# Altium schematic symbol library Artem_Library.SchLib: 157 symbols
Pins are listed as number, name and electrical type; pins without a type are passive.

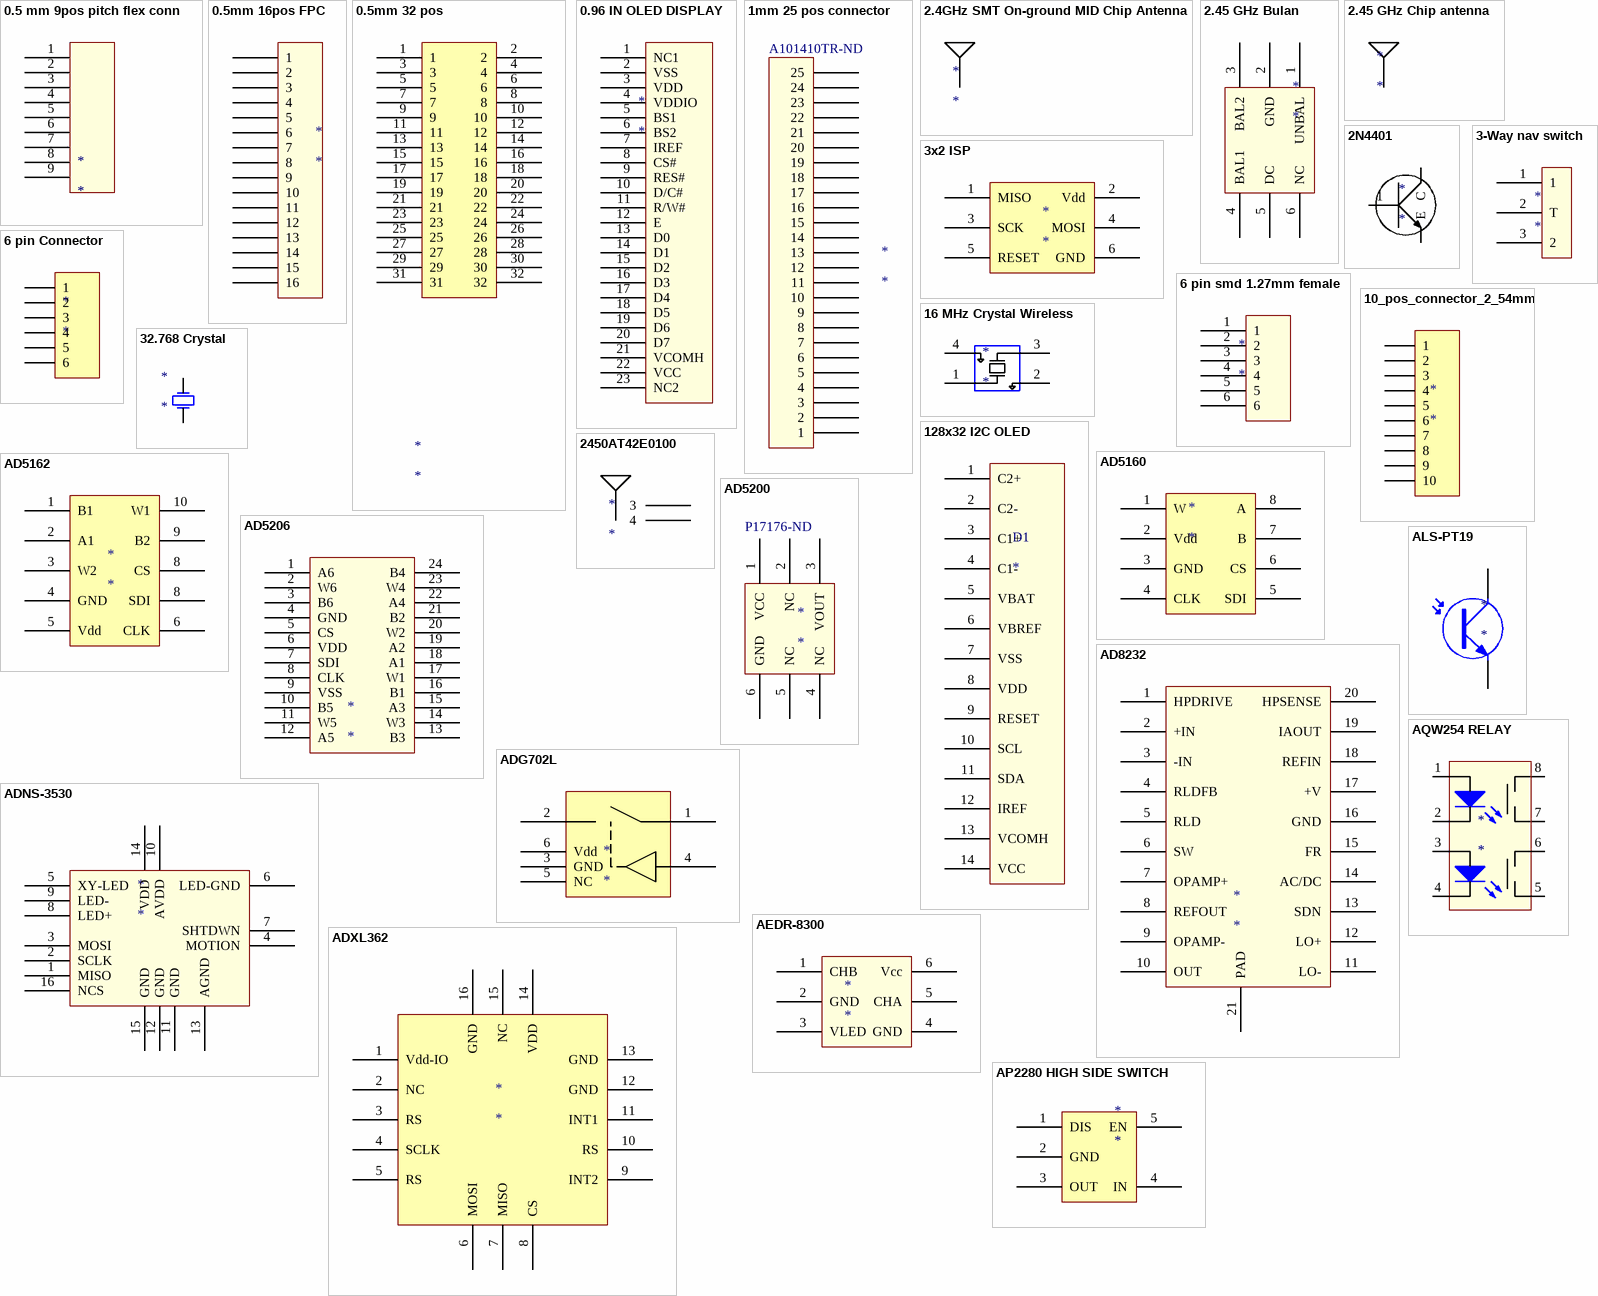
[diagram p0: symbols 0.5 mm 9pos pitch flex conn to AQW254 RELAY]

## 0.5 mm 9pos pitch flex conn
designator *
digikey number: HFN409CT-ND
footprint FH19C 9Pos (9 pos flex cable connector)
pins: 1, 2, 3, 4, 5, 6, 7, 8, 9

## 0.5mm 16pos FPC
designator *
Supplier 1: Digikey; Supplier Part Number 1: 732-2023-1-ND
footprint FPC 16 PIN 0.5mm
pins: 1, 2, 3, 4, 5, 6, 7, 8, 9, 10, 11, 12, 13, 14, 15, 16

## 0.5mm 32 pos
designator *
manufacturer part number: DF12(3.0)-32DP-0.5V(86); manufacturer: Hirose; digikey part number: H5222CT-ND
footprint 0.5mm 32 pos
footprint DF12 32 Pos
pins: 1, 2, 3, 4, 5, 6, 7, 8, 9, 10, 11, 12, 13, 14, 15, 16, 17, 18, 19, 20, 21, 22, 23, 24, 25, 26, 27, 28, 29, 30, 31, 32

## 0.96 IN OLED DISPLAY
designator *
manufacturer part number: UG-9664HDDAG01; manufacturer: Univision Technology Inc
footprint 0.96in OLED
pins: 1 NC1, 2 VSS, 3 VDD, 4 VDDIO, 5 BS1, 6 BS2, 7 IREF, 8 CS#, 9 RES#, 10 D/C#, 11 R/W#, 12 E, 13 D0, 14 D1, 15 D2, 16 D3, 17 D4, 18 D5, 19 D6, 20 D7, 21 VCOMH, 22 VCC, 23 NC2

## 1mm 25 pos connector
designator *  Supplier Part Number 1: A101410TR-ND
Supplier 1: Digikey
footprint 2-84953-5
pins: 1, 2, 3, 4, 5, 6, 7, 8, 9, 10, 11, 12, 13, 14, 15, 16, 17, 18, 19, 20, 21, 22, 23, 24, 25

## 2.4GHz SMT On-ground MID Chip Antenna
designator *
Bluetooth antenna; manufacturer: Molex; manufacturer part number: 47948-0001; digikey part number: WM4893CT-ND
footprint 47948-0001 (2.4GHz SMT On-ground MID Chip Antenna)
pins: 1

## 2.45 GHz Bulan
designator *
for nRF8001 chip; digikey number: 712-1574-1-ND
footprint 2450BM14A0002 (Balun for nRF8001)
pins: 1 UNBAL, 2 GND, 3 BAL2, 4 BAL1, 5 DC , 6 NC

## 2.45 GHz Chip antenna
designator *
for Bluetooth; digikey part number: 712-1005-1-ND
footprint 2450AT18A100E (Chip antenna 2.45 GHz)
pins: 1

## 2N4401
designator *
NPN General Purpose amplifier; digikey part number: MMBT4401FSCT-ND
footprint SOT23
pins: 1 B, 2 E, 3 C

## 3-Way nav switch
designator *
Sparkfun: COM-08236
footprint 3-Way Nav Switch
pins: 1, 2 T, 3 2

## 3x2 ISP
designator *
footprint 3x2 ISP (ISP programmer atmel)
pins: 1 MISO, 2 Vdd, 3 SCK, 4 MOSI, 5 RESET, 6 GND

## 6 pin Connector
designator *
holes for dust sensor
footprint 6 Pos ER series JST conenctor 1.5 pitch
pins: 1, 2, 3, 4, 5, 6

## 6 pin smd 1.27mm female
designator *
digikey: S9005E-06-ND
footprint 1.27mm smd female (female connector smd for 1,27mm)
footprint 6pos 1.27mm
pins: 1, 2, 3, 4, 5, 6

## 10_pos_connector_2_54mm
designator *
footprint 2_54mm_10_pos_connector
pins: 1, 2, 3, 4, 5, 6, 7, 8, 9, 10

## 16 MHz Crystal Wireless
designator *
For BLE use; digikey part number: 644-1169-1-ND
footprint 2.5 x 2.0 crystal
pins: 1 XIN, 2 Gnd, 3 XOUT, 4 Gnd

## 32.768 Crystal
designator *
digikey number: XC1617CT-ND
footprint 32.768 Crystal (for BLE radio)
pins: 1, 2

## 128x32 I2C OLED
designator D1
Adafruit product ID: 931
footprint 128x32 OLED
pins: 1 C2+, 2 C2-, 3 C1+, 4 C1-, 5 VBAT, 6 VBREF, 7 VSS, 8 VDD, 9 RESET, 10 SCL, 11 SDA, 12 IREF, 13 VCOMH, 14 VCC

## 2450AT42E0100
designator *
Supplier 1: Digikey; Supplier Part Number 1: 712-1589-1-ND
footprint 2450AT42E0100 (2.4 GHz antenna no clearance)
pins: 1, 3, 4

## AD5160
designator *
Digikey part number: AD5160BRJZ10-RL7CT-ND
footprint SOT-23-8
pins: 1 W, 2 Vdd, 3 GND, 4 CLK, 5 SDI, 6 CS, 7 B, 8 A

## AD5162
designator *
Digikey part number: AD5162BRMZ100-RL7CT-ND
pins: 1 B1, 2 A1, 3 W2, 4 GND, 5 Vdd, 6 CLK, 8 CS, 8 SDI, 9 B2, 10 W1

## AD5200
designator *  Supplier Part Number 1: P17176-ND
Supplier 1: Digi-Key
footprint ADP5200 (Pressure sensor SMD)
pins: 1 VCC, 2 NC, 3 VOUT, 4 NC, 5 NC, 6 GND

## AD5206
designator *
Digikey part number: AD5206BRUZ10-RL7CT-ND
footprint TSSOP 24
pins: 1 A6, 2 W6, 3 B6, 4 GND, 5 CS, 6 VDD, 7 SDI, 8 CLK, 9 VSS, 10 B5, 11 W5, 12 A5, 13 B3, 14 W3, 15 A3, 16 B1, 17 W1, 18 A1, 19 A2, 20 W2, 21 B2, 22 A4, 23 W4, 24 B4

## AD8232
designator *
Heart rate circuit; Supplier 1: Digikey; Supplier Part Number 1: AD8232ACPZ-R7CT-ND
footprint LFCSP_WQ-20
pins: 1 HPDRIVE, 2 +IN, 3 -IN, 4 RLDFB, 5 RLD, 6 SW, 7 OPAMP+, 8 REFOUT, 9 OPAMP-, 10 OUT, 11 LO-, 12 LO+, 13 SDN, 14 AC/DC, 15 FR, 16 GND, 17 +V, 18 REFIN, 19 IAOUT, 20 HPSENSE, 21 PAD

## ADG702L
designator *
Digikey part number: ADG702LBRTZ-REEL7CT-ND
footprint RT-6 (Same as SOT-23 but with  6 pins)
pins: 1 D, 2 S, 3 GND, 4 IN, 5 NC, 6 Vdd

## ADNS-3530
designator *
footprint ADNS_3530 (Mouse Sensor)
pins: 1 MISO, 2 SCLK, 3 MOSI, 4 MOTION, 5 XY-LED, 6 LED-GND, 7 SHTDWN, 8 LED+, 9 LED-, 10 AVDD, 11 GND, 12 GND, 13 AGND, 14 VDD, 15 GND, 16 NCS

## ADXL362
designator *
Digikey #: ADXL362BCCZ-RL7CT-ND
footprint ADXL362
pins: 1 Vdd-IO, 2 NC, 3 RS, 4 SCLK, 5 RS, 6 MOSI, 7 MISO, 8 CS, 9 INT2, 10 RS, 11 INT1, 12 GND, 13 GND, 14 VDD, 15 NC, 16 GND

## AEDR-8300
designator *
Reflective encoder digital; digikey part number: 516-2262-1-ND
footprint AEDR-8300
pins: 1 CHB, 2 GND, 3 VLED, 4 GND, 5 CHA, 6 Vcc

## ALS-PT19
designator *
Ambient Light Sensor; digikey part number: 1080-1244-1-ND
footprint ALS-PT19 (Ambient Light Sensor SMD)
pins: 1 C, 2 E

## AP2280 HIGH SIDE SWITCH
designator *
2A High side switch; digikey number: AP2280-1WGDICT-ND
footprint SOT25
pins: 1 DIS, 2 GND, 3 OUT, 4 IN, 5 EN

## AQW254 RELAY
designator *
400V 160mA Relay
footprint AQW254A (Relay 400V 0.120mA)
pins: 1, 2, 3, 4, 5, 6, 7, 8

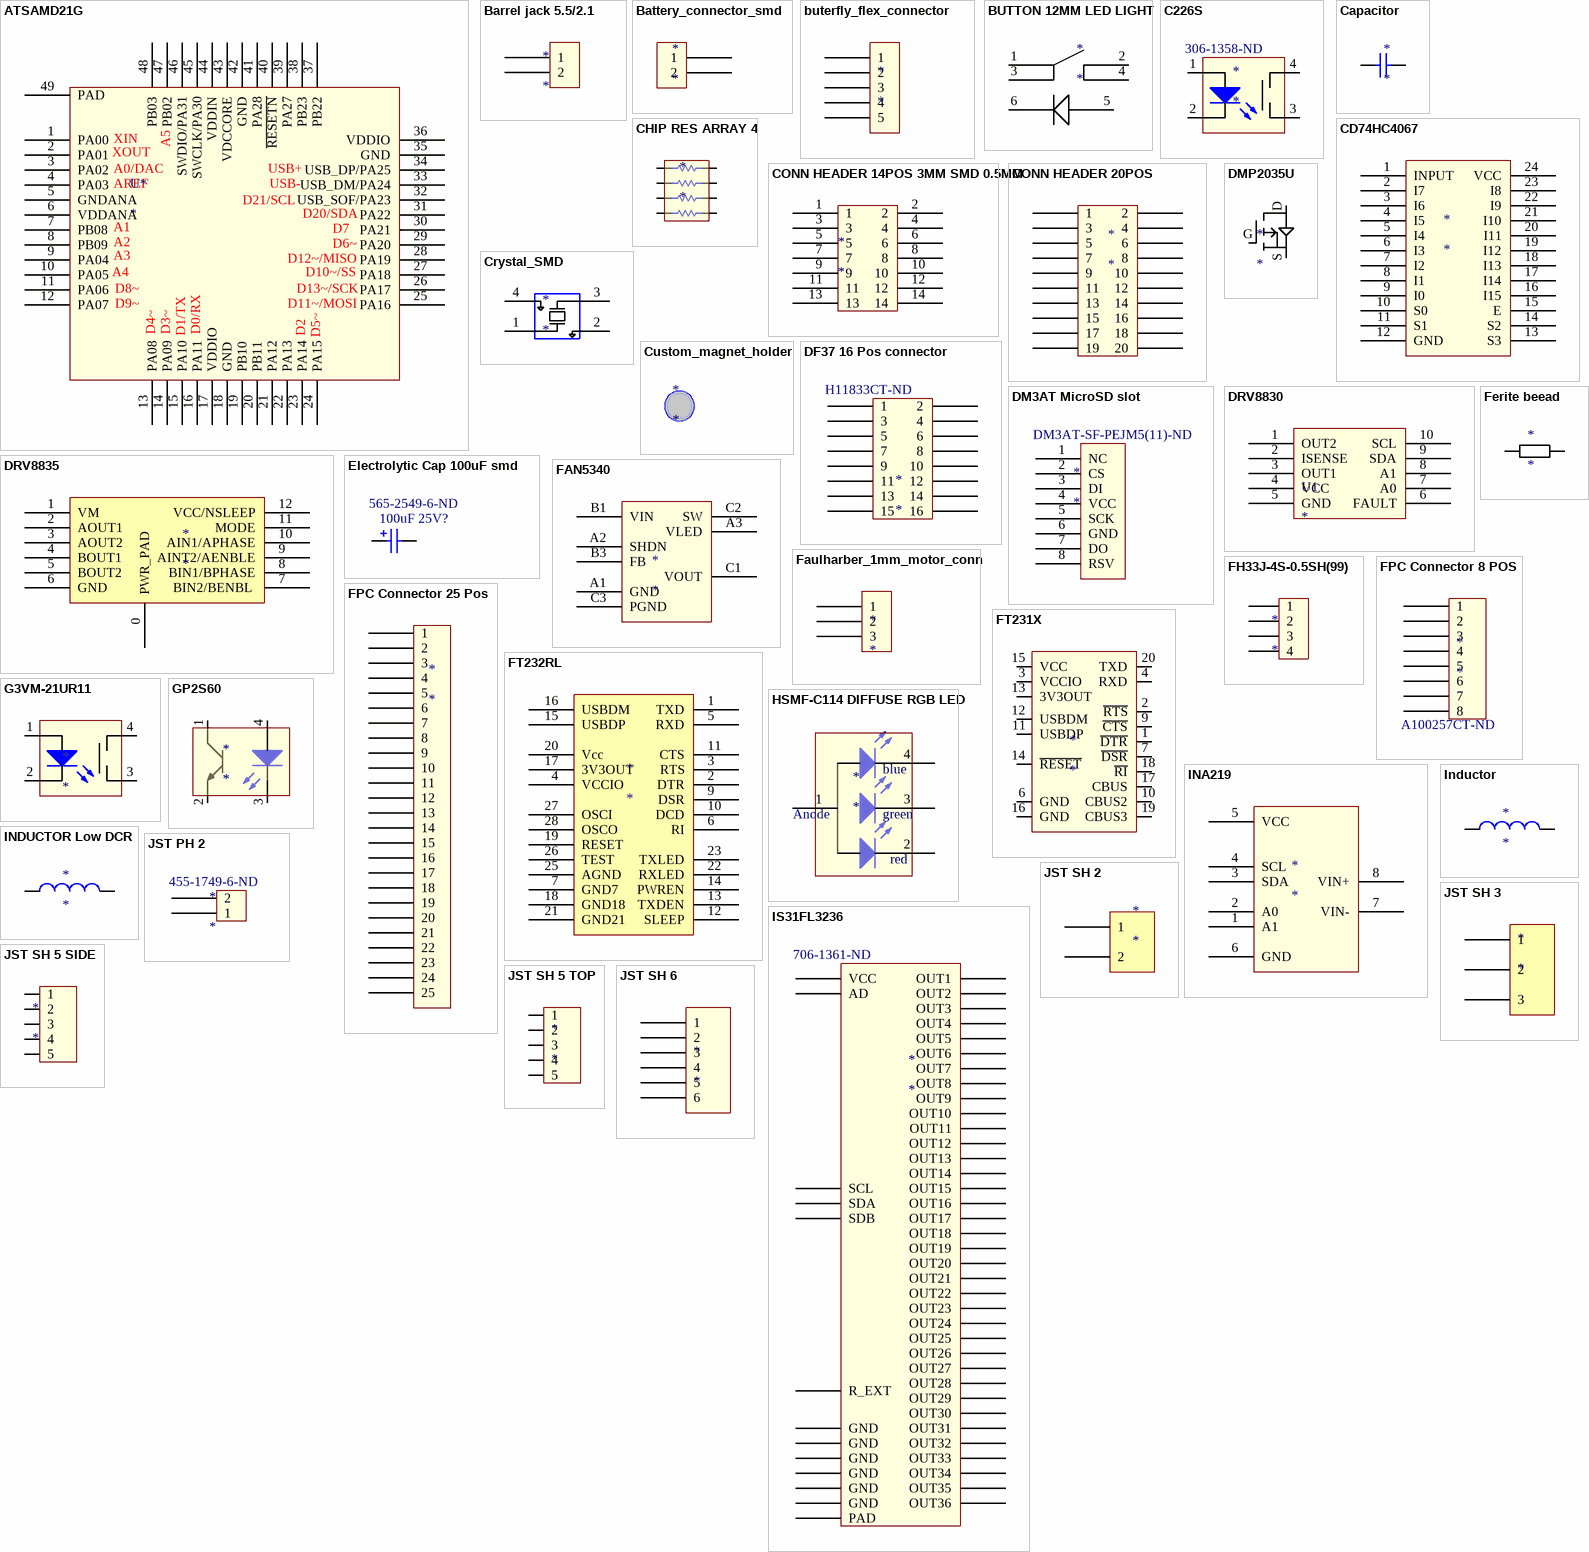
[diagram p1: symbols ATSAMD21G to JST SH 6]

## ATSAMD21G
designator U*
IC MCU 32BIT 256KB FLASH 48TQFP; digikey part number: ATSAMD21G18A-AUTCT-ND
footprint TQFN48 (TSQFP, 48-Leads, Body 7.00x7.00mm, Pitch 0.50mm, IPC High Density)
footprint QFN48
pins: 1 PA00, 2 PA01, 3 PA02, 4 PA03, 5 GNDANA, 6 VDDANA, 7 PB08, 8 PB09, 9 PA04, 10 PA05, 11 PA06, 12 PA07, 13 PA08, 14 PA09, 15 PA10, 16 PA11, 17 VDDIO, 18 GND, 19 PB10, 20 PB11, 21 PA12, 22 PA13, 23 PA14, 24 PA15, 25 PA16, 26 PA17, 27 PA18, 28 PA19, 29 PA20, 30 PA21, 31 PA22, 32 USB_SOF/PA23, 33 USB_DM/PA24, 34 USB_DP/PA25, 35 GND, 36 VDDIO, 37 PB22, 38 PB23, 39 PA27, 40 ~{RESETN}, 41 PA28, 42 GND, 43 VDCCORE, 44 VDDIN, 45 SWCLK/PA30, 46 SWDIO/PA31, 47 PB02, 48 PB03, 49 PAD
text: XIN; A5; XOUT; A0/DAC; USB+; AREF; USB-; D21/SCL; D20/SDA; A1; D7; A2; D6~; A3; D12~/MISO; A4; D10~/SS; D8~; D13~/SCK; D9~; D11~/MOSI; D4~; D3~; D1/TX; D0/RX; D2; D5~

## Barrel jack 5.5/2.1
designator *
sparkfun part number: 12748
footprint ADC-028-2 (2.1/5.5mm barrel jack)
footprint Model Name (Footprint not found)
pins: 1, 2

## Battery_connector_smd
designator *
footprint BATT CONNECTOR SMD SMALL
pins: 1, 2

## buterfly_flex_connector
designator *
footprint BUTERFLY_CONNECTOR_5
pins: 1, 2, 3, 4, 5

## BUTTON 12MM LED LIGHT
designator *
footprint 12MM BUTTON LED LIGHT
pins: 1, 2, 3, 4, 5, 6

## C226S
designator *  Supplier Part Number 1: 306-1358-ND
Relay 1A 40V DC; Supplier 1: Digikey
footprint SOP4
pins: 1, 2, 3, 4

## Capacitor
designator *
SMD Cap 1206; digikey part number: *; manufacturer: *; manufacturer part number: *
footprint RES_1206_SMD
footprint CAP_1210
footprint 0603W
footprint 0402W
footprint 0402_CAP (Chip Capacitor, 2-Leads, Body 1.00x0.50mm, IPC Medium Density)
footprint 0402 CAPACITOR
pins: 1, 2

## CD74HC4067
designator *
1:16 multiplexer; Manufacturer part number: CD74HC4067SM96; Digikey part number: 296-9226-1-ND
footprint SSOP24
pins: 1 INPUT, 2 I7, 3 I6, 4 I5, 5 I4, 6 I3, 7 I2, 8 I1, 9 I0, 10 S0, 11 S1, 12 GND, 13 S3, 14 S2, 15 E, 16 I15, 17 I14, 18 I13, 19 I12, 20 I11, 21 I10, 22 I9, 23 I8, 24 VCC

## CHIP RES ARRAY 4
designator *
digikey number: Y7331CT-ND; digikey number 1206: Y9331CT-ND
footprint RES ARRAY 0402 4RES
footprint RES ARRAY 4 1206
pins: 1, 2, 3, 4, 5, 6, 7, 8

## CONN HEADER 14POS 3MM SMD 0.5MM
designator *
digikey part number: H11701TR-ND; digikey part number female: H11701TR-ND
footprint DF12 14Pos (0.5 mm header)
footprint DF12 14Pos Female (0.5 mm header)
pins: 1, 2, 3, 4, 5, 6, 7, 8, 9, 10, 11, 12, 13, 14

## CONN HEADER 20POS
designator *
manufacturer part number: DF12D(4.0)-20DP-0.5V(81); manufacturer: Hirose Electric Co Ltd; digikey part number: H11743CT-ND
footprint DF12 20 POS
pins: 1, 2, 3, 4, 5, 6, 7, 8, 9, 10, 11, 12, 13, 14, 15, 16, 17, 18, 19, 20

## Crystal_SMD
designator *
Surface mount crystal; Sparkfun # for 16 MHz: COM-00094
footprint CRYSTAL_SMD
pins: 1 XIN, 2 Gnd, 3 XOUT, 4 Gnd

## Custom_magnet_holder
designator *
footprint 3mm_magnet_holder (custom magnet holder)

## DF37 16 Pos connector
designator *  Supplier Part Number 1: H11833CT-ND
Supplier 1: Digikey
footprint DF37 16 pos (small board to board connector)
pins: 1, 2, 3, 4, 5, 6, 7, 8, 9, 10, 11, 12, 13, 14, 15, 16

## DM3AT MicroSD slot
designator *  Supplier Part Number 1: DM3AT-SF-PEJM5(11)-ND
Supplier 1: Digikey
footprint DM3AT (MicroSD slot)
pins: 1 NC, 2 CS, 3 DI, 4 VCC, 5 SCK, 6 GND, 7 DO, 8 RSV

## DMP2035U
designator *
P-channel mosfet; manufacturer part number: DMP2035U-7; manufacturer: Diodes incorporated; digikey part number: DMP2035U-7DICT-ND
footprint SOT23_3D
pins: D, G, S

## DRV8830
designator U1
Low-Voltage Motor Driver With Serial Interface; digikey part number: 296-28165-1-ND
footprint MSOP10_TI_POWERPAD (TSSOP, 10-Leads, Body 3.00x3.00mm, Pitch 0.50mm, Thermal Pad 3.00x2.50mm, IPC Medium Density)
pins: 1 OUT2, 2 ISENSE, 3 OUT1, 4 VCC, 5 GND, 6 FAULT, 7 A0, 8 A1, 9 SDA, 10 SCL

## DRV8835
designator *
manufacturer: Texas Instruments; manufacturer part number: DRV8835DSSR; digikey part number: 296-30391-1-ND
footprint WSON-16
pins: 0 PWR_PAD, 1 VM, 2 AOUT1, 3 AOUT2, 4 BOUT1, 5 BOUT2, 6 GND, 7 BIN2/BENBL , 8 BIN1/BPHASE, 9 AINT2/AENBLE, 10 AIN1/APHASE, 11 MODE, 12 VCC/NSLEEP

## Electrolytic Cap 100uF smd
designator 100uF 25V?  Supplier Part Number 1: 565-2549-6-ND  (hidden comment: Electrolytic Cap 100uF smd)
100uF 25 VSMD; manufacturer: United Chemi-Con; manufacturer part number: EMZA250ADA101MF80G; digikey part number: 565-2549-1-ND; Supplier 1: Digikey
footprint F80 Electrolytic cap
pins: 1, 2

## FAN5340
designator *
LED Driver IC 1 Output DC DC Regulator Step-Up (Boost); manufacturer part number: FAN5340UCX; manufacturer: Fairchild; digikey part number: FAN5340UCXCT-ND
footprint BGA, 8-Leads, Body (BGA, 8-Leads, Body 1.57x1.57mmx0.54mm, Pitch 0.50mm)
pins: A1 GND, A2 SHDN, A3 VLED, B1 VIN, B3 FB, C1 VOUT, C2 SW, C3 PGND

## Faulharber_1mm_motor_conn
designator *
footprint FAULHARBER_MOTOR_CON (1MM pitch)
pins: 1, 2, 3

## Ferite beead
designator *
digikey number: MH2029-300Y
footprint 0805
pins: 1, 2

## FH33J-4S-0.5SH(99)
designator *
0.5mm FPC connector; digikey part number: H124646CT-ND
footprint FH33J-4S-0.5SH(99)
pins: 1, 2, 3, 4

## FPC Connector 8 POS
designator *  digikey part number: A100257CT-ND
footprint FPC 8POS 1MM (flex connector 8POS 1MM)
pins: 1, 2, 3, 4, 5, 6, 7, 8

## FPC Connector 25 Pos
designator *
digikey part number: A101410CT-ND
footprint FPC 25 POS (1mm pitch)
pins: 1, 2, 3, 4, 5, 6, 7, 8, 9, 10, 11, 12, 13, 14, 15, 16, 17, 18, 19, 20, 21, 22, 23, 24, 25

## FT231X
designator *
USB to SERIAL FULL UART; digikey part number: 768-1156-5-ND
footprint SSOP20 (SOP, 20-Leads, Body 8.17x5.99mm, Pitch 0.64mm, IPC Medium Density)
footprint 20-SSOP Narrow Body (TSOP, 20-Leads, Body 8.65x3.90mm, Pitch 0.64mm, IPC Medium Density)
pins: 1 ~{DTR}, 2 ~{RTS}, 3 VCCIO, 4 RXD, 6 GND, 7 ~{DSR}, 9 ~{CTS}, 10 CBUS2, 11 USBDP, 12 USBDM, 13 3V3OUT, 14 ~{RESET}, 15 VCC, 16 GND, 17 CBUS, 18 ~{RI}, 19 CBUS3, 20 TXD

## FT232RL
designator *
digikey number: 768-1007-1-ND
footprint 28-SSOP
pins: 1 TXD, 2 DTR, 3 RTS, 4 VCCIO, 5 RXD, 6 RI, 7 GND7, 9 DSR, 10 DCD, 11 CTS, 12 SLEEP, 13 TXDEN, 14 PWREN, 15 USBDP, 16 USBDM, 17 3V3OUT, 18 GND18, 19 RESET, 20 Vcc, 21 GND21, 22 RXLED, 23 TXLED, 25 AGND, 26 TEST, 27 OSCI, 28 OSCO

## G3VM-21UR11
designator *
manufacturer part number: G3VM-21UR11(TR05); digikey part number: Z4383CT-ND
footprint VSON4 (MOSFET RELAY)
pins: 1, 2, 3, 4

## GP2S60
designator *
digikey part number: 425-2885-1-ND
footprint GP2S60
pins: 1, 2, 3, 4

## HSMF-C114 DIFFUSE RGB LED
designator *
digikey number: 516-1795-1-ND
footprint HSMF-C114 LED (RGB LED)
pins: 1, 2, 3 G, 4 B
text: blue; Anode; green; red

## INA219
designator *
High side current monitor; Supplier 1: Digikey; Supplier Part Number 1: 296-23770-1-ND
footprint SOIC8 0.54 PITCH (FOR INA219)
pins: 1 A1, 2 A0, 3 SDA, 4 SCL, 5 VCC, 6 GND, 7 VIN-, 8 VIN+

## Inductor
designator *
footprint 0402 CAPACITOR
pins: 1, 2

## INDUCTOR Low DCR
designator *
Manufacturer: NR6028T470M; Digikey: 587-2104-1-ND
footprint NR6028 Inductor
footprint 0402_INDUCTOR (Chip Inductor, 2-Leads, Body 1.00x0.50mm, IPC Medium Density)
pins: 1, 2

## IS31FL3236
designator *  Supplier Part Number 1: 706-1361-ND
Supplier 1: Digikey
footprint eTQFP-48 (TSQFP, 48-Leads, Body 7.00x7.00mm, Pitch 0.50mm, Thermal Pad 4.21x4.21mm, IPC Medium Density)
pins: 1 OUT3, 2 OUT4, 3 OUT5, 4 GND, 5 OUT6, 6 OUT7, 7 OUT8, 8 OUT9, 9 OUT10, 10 OUT11, 11 OUT12, 12 OUT13, 13 OUT14, 14 OUT15, 15 OUT16, 16 OUT17, 17 OUT18, 18 GND, 19 GND, 20 OUT19, 21 OUT20, 22 OUT21, 23 OUT22, 24 OUT23, 25 OUT24, 26 OUT25, 27 OUT26, 28 OUT27, 29 OUT28, 30 OUT29, 31 OUT30, 32 OUT31, 33 GND, 34 OUT32, 35 OUT33, 36 OUT34, 37 OUT35, 38 OUT36, 39 SDB, 40 AD, 41 VCC, 42 GND, 43 GND, 44 R_EXT, 45 SDA, 46 SCL, 47 OUT1, 48 OUT2, 49 PAD

## JST PH 2
designator *  Supplier Part Number 1: 455-1749-6-ND
Supplier 1: Digikey
footprint JST PH 2 (2mm pitch)
pins: 1, 2

## JST SH 2
designator *
manufacturer part number: SM02B-SRSS-TB(LF)(SN); manufacturer: JST; digikey part number: 455-1802-2-ND
footprint JST SH 2 (1mm pitch)
pins: 1, 2

## JST SH 3
designator *
Supplier 1: Digikey; Supplier Part Number 1: 455-1803-1-ND
footprint JST SH 3 SIDE ENTRY
pins: 1, 2, 3

## JST SH 5 SIDE
designator *
1mm pitch; manufacturer part number: SM05B-SRSS-TB(LF)(SN); digikey park number: 455-1805-1-ND
footprint JST SH 5 SIDE ENTRY (1mm pitch)
pins: 1, 2, 3, 4, 5

## JST SH 5 TOP
designator *
manufacturer part number: BM05B-SRSS-TB; manufacturer: Molex; digikey part number: 455-1791-1-ND
footprint JST SH 5 TOP ENTRY (Horizontal 1mm)
pins: 1, 2, 3, 4, 5

## JST SH 6
designator *
Sparkfun part number: PRT-10210
footprint JST SH 6
footprint JST SH 6 TOP ENTRY 1MM (1 mm pitch)
pins: 1, 2, 3, 4, 5, 6

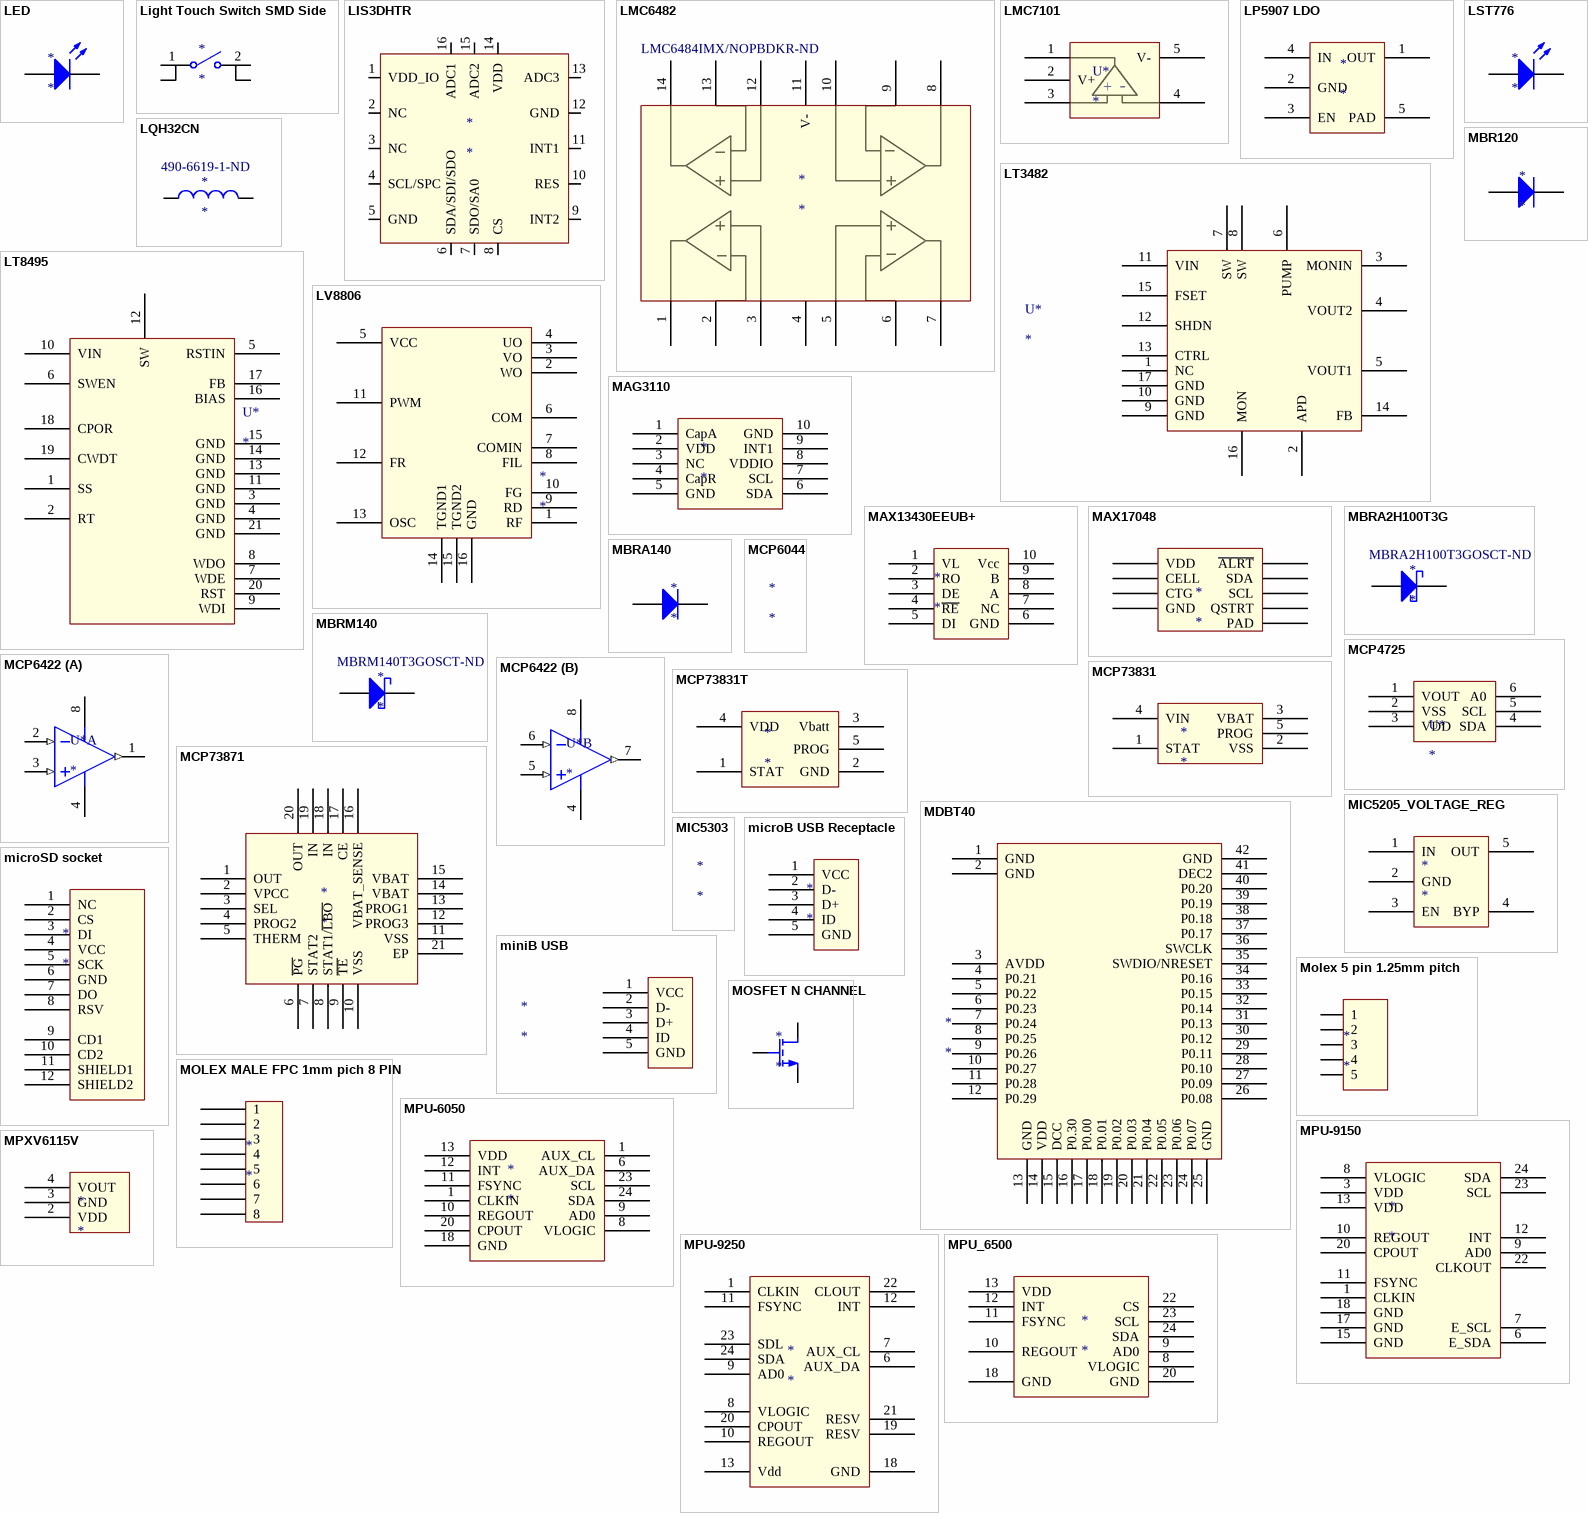
[diagram p2: symbols LED to MPXV6115V]

## LED
designator *
LED SMD 1206/0603; digikey part number: *; manufacturer part number: *; manufacturer: *
footprint RES_1206_SMD
footprint 0603W
footprint 0402W
footprint 0603 LED
footprint 0402 LED
footprint 0805 LED
pins: 1 A, 2 K

## Light Touch Switch SMD Side
designator *
manufacturer: Panasonic; manufacturer part number: EVQ-P7C01P; digikey part number: P16765CT-ND
footprint EVQP7C01P (SWITCH TACTILE SPST-NO 0.05A 12V)
pins: 1 COMMON, 2, _1, _2

## LIS3DHTR
designator *
3-axis low power accelerometer
footprint LIS3DHTR (3-axis accelerometer low power)
pins: 1 VDD_IO (power), 2 NC, 3 NC, 4 SCL/SPC (in), 5 GND (power), 6 SDA/SDI/SDO, 7 SDO/SA0, 8 CS, 9 INT2, 10 RES, 11 INT1, 12 GND, 13 ADC3, 14 VDD (power), 15 ADC2, 16 ADC1

## LMC6482
designator *  Supplier Part Number 1: LMC6484IMX/NOPBDKR-ND
quad op amp; Supplier 1: Digikey
footprint SOIC14 (SOIC, 14-Leads, Body 8.66x3.90mm, Pitch 1.27mm, IPC Medium Density)
pins: 1, 2, 3, 4 V+, 5, 6, 7, 8, 9, 10, 11 V-, 12, 13, 14

## LMC7101
designator U*
digikey part number: 576-2575-1-ND
footprint SOT-23-5
pins: 1, 2 V+, 3, 4, 5 V-
text: +; -

## LP5907 LDO
designator *
digikey part number: 296-39066-1-ND
footprint X2SON (1mm x 1mm package)
pins: 1 OUT, 2 GND, 3 EN, 4 IN, 5 PAD

## LQH32CN
designator *  Supplier Part Number 1: 490-6619-1-ND
Supplier 1: Digi-Key
footprint LQH32CN4R7M33L
pins: 1, 2

## LST776
designator *
Supplier 1: Farnell; Supplier Part Number 1: 1226394RL
footprint LST776 (LED Facing down)
pins: 1 A, 2 K

## LT3482
designator U*
90V Boost DC/DC; Supplier 1: Digikey; Supplier Part Number 1: LT3482IUD#PBF-ND
pins: 1 NC, 2 APD, 3 MONIN, 4 VOUT2, 5 VOUT1, 6 PUMP, 7 SW, 8 SW, 9 GND, 10 GND, 11 VIN, 12 SHDN, 13 CTRL, 14 FB, 15 FSET, 16 MON, 17 GND

## LT8495
designator U*
Boost Converter 70V; Supplier 1: Digikey; Supplier Part Number 1: LT8495EUF#PBF-ND
footprint QFN20 (QFN, 20-Leads, Body 4.00x4.00mm, Pitch 0.50mm, Thermal Pad 2.50x2.50mm, IPC Low Density)
pins: 1 SS, 2 RT, 3 GND, 4 GND, 5 RSTIN, 6 SWEN, 7 WDE, 8 WDO, 9 WDI, 10 VIN, 11 GND, 12 SW, 13 GND, 14 GND, 15 GND, 16 BIAS, 17 FB, 18 CPOR, 19 CWDT, 20 RST, 21 GND

## LV8806
designator *
BCLD sensorless motor controller; Supplier 1: Digikey; Supplier Part Number 1: LV8806QA-MHOSCT-ND
footprint UQFN16
pins: 1 RF, 2 WO, 3 VO, 4 UO, 5 VCC, 6 COM, 7 COMIN, 8 FIL, 9 RD, 10 FG, 11 PWM, 12 FR, 13 OSC, 14 TGND1, 15 TGND2, 16 GND

## MAG3110
designator *
digikey number: MAG3110FCR1CT-ND
footprint 10-VFDFN (3-axis magnetometer)
pins: 1 CapA, 2 VDD, 3 NC, 4 CapR, 5 GND, 6 SDA, 7 SCL, 8 VDDIO, 9 INT1, 10 GND

## MAX13430EEUB+
designator *
digikey part number: MAX13430EEUB+-ND
footprint uMAX10 (0.5mm pitch)
pins: 1 VL, 2 RO, 3 DE, 4 ~{RE}, 5 DI, 6 GND, 7 NC, 8 A, 9 B, 10 Vcc

## MAX17048
designator *
Supplier 1: Digikey; Supplier Part Number 1: MAX17048G+-ND
footprint TDFN8 (SON, 8-Leads, Body 2.00x2.00mm, Pitch 0.50mm, Thermal Pad 1.30x0.70mm, IPC Medium Density)
pins: 1 CTG, 2 CELL, 3 VDD, 4 GND, 5 ~{ALRT}, 6 QSTRT, 7 SCL, 8 SDA, 9 PAD

## MBR120
designator *
Schottly Diode 1A 20V; manufacturer part number: MBR120VLSFT1G; manufacturer: ON semiconductor; digikey part number: MBR120VLSFT1GOSCT-ND
footprint SOD-123FL (SODFL, 2-Leads, Body 1.65x3.60mm, IPC Medium Density)
pins: 1 C, 2 A

## MBRA2H100T3G
designator *  Supplier Part Number 1: MBRA2H100T3GOSCT-ND
Schittky Diode 100V; Supplier 1: Digikey
footprint 403D-02 (Diode)
pins: 1 A, 2 C

## MBRA140
designator *
Schottky Diode Rectifier 1A; Manufacturer number: VS-MBRA140TRPBF; Digikey: VS-MBRA140TRPBFCT-ND
footprint SMA Diode
pins: 1 A, 2 C

## MBRM140
designator *  Supplier Part Number 1: MBRM140T3GOSCT-ND
Supplier 1: Digi-Key
footprint DO-216AA (diode); pin to pad 1>2 2>1
pins: 1 A, 2 C

## MCP4725
designator U*
12bit DAC; digikey part number: MCP4725A0T-E/CHCT-ND
footprint SOT23-6 (SOT23, 6-Leads, Body 2.90x2.45mm, Pitch 0.95mm, IPC Medium Density)
pins: 1 VOUT, 2 VSS, 3 VDD, 4 SDA, 5 SCL, 6 A0

## MCP6044
designator *
600 nA op amp

## MCP6422
designator U*
4.4 µA/Amplifier, 90 kHz Op Amp; manufacturer: Microchip Technology; manufacturer part number: MCP6422-E/MS; digikey part number: MCP6422-E/MS-ND
footprint MSOP-MS8_N
part A pins: 1 VOUTA (out), 2 VINA- (in), 3 VINA+ (in), 4 VSS (power), 8 VDD (power)
part B pins: 4 VSS (power), 5 VINB+ (in), 6 VINB- (in), 7 VOUTB (out), 8 VDD (power)

## MCP73831
designator *
IC CONTROLLR LI-ION 4.2V SOT23-5; Manufacturer: MCP73831T-2ACI/OT; Digikey: MCP73831T-2ACI/OTCT-ND
footprint SOT-23-5
pins: 1 STAT, 2 VSS, 3 VBAT, 4 VIN, 5 PROG

## MCP73831T
designator *
digikey part number: MCP73831T-2ACI/OTTR-ND
footprint SOT-23-5 (3D view)
pins: 1 STAT, 2 GND, 3 Vbatt, 4 VDD, 5 PROG

## MCP73871
designator *
Stand-Alone System Load Sharing and Li-Ion/Li-Polymer Battery Charge  Management Controller; digikey part number: MCP73871-2AAI/ML-ND
footprint QFN20 (QFN, 20-Leads, Body 4.00x4.00mm, Pitch 0.50mm, Thermal Pad 2.50x2.50mm, IPC Low Density)
pins: 1 OUT, 2 VPCC, 3 SEL, 4 PROG2, 5 THERM, 6 ~{PG}, 7 STAT2, 8 STAT1/~{LBO}, 9 ~{TE}, 10 VSS, 11 VSS, 12 PROG3, 13 PROG1, 14 VBAT, 15 VBAT, 16 VBAT_SENSE, 17 CE, 18 IN, 19 IN, 20 OUT, 21 EP

## MDBT40
designator *
footprint MDBT40 (Bluetooth module)
pins: 1 GND, 2 GND, 3 AVDD, 4 P0.21, 5 P0.22, 6 P0.23, 7 P0.24, 8 P0.25, 9 P0.26, 10 P0.27, 11 P0.28, 12 P0.29, 13 GND, 14 VDD, 15 DCC, 16 P0.30, 17 P0.00, 18 P0.01, 19 P0.02, 20 P0.03, 21 P0.04, 22 P0.05, 23 P0.06, 24 P0.07, 25 GND, 26 P0.08, 27 P0.09, 28 P0.10, 29 P0.11, 30 P0.12, 31 P0.13, 32 P0.14, 33 P0.15, 34 P0.16, 35 SWDIO/NRESET, 36 SWCLK, 37 P0.17, 38 P0.18, 39 P0.19, 40 P0.20, 41 DEC2, 42 GND

## MIC5205_VOLTAGE_REG
designator *
5V LDO SMD; Sparkfun #: PRT-1125
footprint SOT-23-5
pins: 1 IN, 2 GND, 3 EN, 4 BYP, 5 OUT

## MIC5303
designator *

## microB USB Receptacle
designator *
Manufacturer: ZX62-B-5PA(11); Digikey: H11634CT-ND; digikey part number 2: 609-4613-1-ND
footprint MicroB USB Standarad SMT (FOR ZX Series Hirose)
footprint MicroUSB thinner (for 0473460001 MOLEX)
pins: 1 VCC, 2 D-, 3 D+, 4 ID, 5 GND

## microSD socket
designator *
microSD socket; manufacturer part number: 0473340001; sparkfun #: PRT-00127; digikey part number: WM3288CT-ND
footprint microSD socket
pins: 1 NC, 2 CS, 3 DI, 4 VCC, 5 SCK, 6 GND, 7 DO, 8 RSV, 9 CD1, 10 CD2, 11 SHIELD1, 12 SHIELD2

## miniB USB
designator *
digikey number: H11671CT-ND
footprint UX60SC-MB-5ST (MiniB USB Connector)
pins: 1 VCC, 2 D-, 3 D+, 4 ID, 5 GND

## Molex 5 pin 1.25mm pitch
designator *
manufacturer: Moles; digikey part number: WM7623CT-ND; digikey part number thru hole: H3308-ND
footprint MOLEX 1.25mm 5 pin
footprint MOLEX 1.25mm 5 PIN THRU HOLE
pins: 1, 2, 3, 4, 5

## MOLEX MALE FPC 1mm pich 8 PIN
designator *
namufacturer part number: 0522070833; manufacturer: Molex; digikey part number: WM10376CT-ND
footprint FPC MALE 8 POS 1mm PiTCH
pins: 1, 2, 3, 4, 5, 6, 7, 8

## MOSFET N CHANNEL
designator *
digikey part number: 568-5987-1-ND
footprint SOT323 (Smaller package for SOT23)
pins: 1 G, 2 S, 3 D

## MPU-6050
designator *
GYRO/ACCELEROMETER 6AXIS 24QFN; Digikey: 1428-1007-1-ND; Manufacturer: MPU-6050
footprint QFN24 (pitch 0.5mm)
pins: 1 CLKIN, 1 AUX_CL, 6 AUX_DA, 8 VLOGIC, 9 AD0, 10 REGOUT, 11 FSYNC, 12 INT, 13 VDD, 18 GND, 20 CPOUT, 23 SCL, 24 SDA

## MPU-9150
designator *
GYRO / ACCELEROMETER / COMPASS; Digikey: 1428-1009-1-ND; Manufacturer: MPU-9150
pins: 1 CLKIN, 3 VDD, 6 E_SDA, 7 E_SCL, 8 VLOGIC, 9 AD0, 10 REGOUT, 11 FSYNC, 12 INT, 13 VDD, 15 GND, 17 GND, 18 GND, 20 CPOUT, 22 CLKOUT, 23 SCL, 24 SDA

## MPU-9250
designator *
Gyro / Accelerometer / Compass; manufacturer: Invensense; digikey part number: 1428-1019-1-ND; manufacturer part number: MPU-9250
footprint QFN24 (pitch 0.5mm)
pins: 1 CLKIN, 6 AUX_DA, 7 AUX_CL, 8 VLOGIC, 9 AD0, 10 REGOUT, 11 FSYNC, 12 INT, 13 Vdd, 18 GND, 19 RESV, 20 CPOUT, 21 RESV, 22 CLOUT, 23 SDL, 24 SDA

## MPU_6500
designator *
Gyro / accelerometer combo
footprint QFN24 (pitch 0.5mm)
pins: 8 VLOGIC, 9 AD0, 10 REGOUT, 11 FSYNC, 12 INT, 13 VDD, 18 GND, 20 GND, 22 CS, 23 SCL, 24 SDA

## MPXV6115V
designator *
Vacuum pressure sensor -115kPa; Supplier 1: Digikey; Supplier Part Number 1: MPXV6115VC6U-ND
footprint MPXV6115V (Vacuum pressure sensor -115kPA)
pins: 2 VDD, 3 GND, 4 VOUT

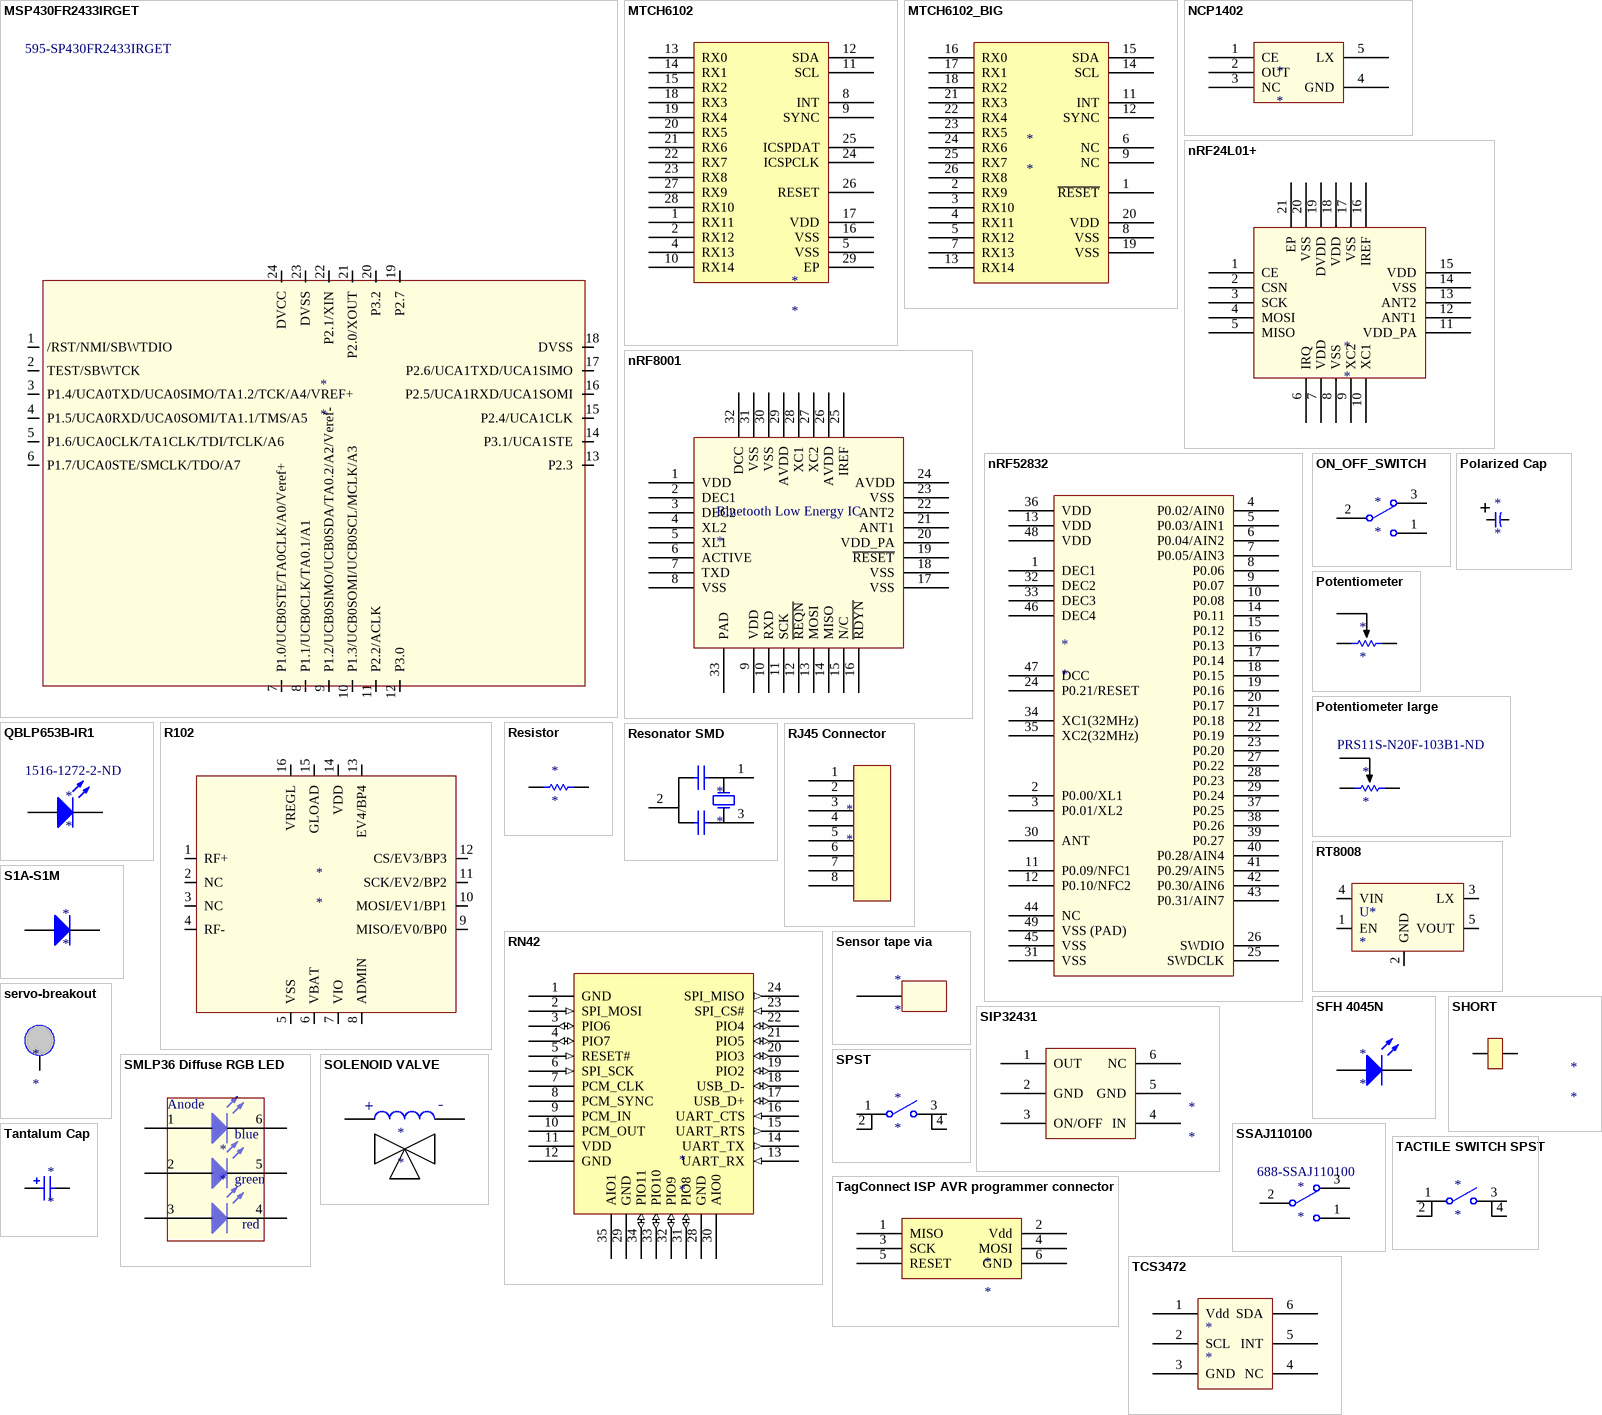
[diagram p3: symbols MSP430FR2433IRGET to TCS3472]

## MSP430FR2433IRGET
designator *  Supplier Part Number 1: 595-SP430FR2433IRGET
Supplier 1: Mouser
footprint MSP430FR2433IRGET (MSP430 SMT)
pins: 1 /RST/NMI/SBWTDIO, 2 TEST/SBWTCK, 3 P1.4/UCA0TXD/UCA0SIMO/TA1.2/TCK/A4/VREF+, 4 P1.5/UCA0RXD/UCA0SOMI/TA1.1/TMS/A5, 5 P1.6/UCA0CLK/TA1CLK/TDI/TCLK/A6, 6 P1.7/UCA0STE/SMCLK/TDO/A7, 7 P1.0/UCB0STE/TA0CLK/A0/Veref+, 8 P1.1/UCB0CLK/TA0.1/A1, 9 P1.2/UCB0SIMO/UCB0SDA/TA0.2/A2/Veref-, 10 P1.3/UCB0SOMI/UCB0SCL/MCLK/A3, 11 P2.2/ACLK, 12 P3.0, 13 P2.3, 14 P3.1/UCA1STE, 15 P2.4/UCA1CLK, 16 P2.5/UCA1RXD/UCA1SOMI, 17 P2.6/UCA1TXD/UCA1SIMO, 18 DVSS (power), 19 P2.7, 20 P3.2, 21 P2.0/XOUT, 22 P2.1/XIN, 23 DVSS (power), 24 DVCC (power)

## MTCH6102
designator *
digikey nuimber: MTCH6102-I/MV-ND
footprint QFN28_no_gnd_conn
pins: 1 RX11, 2 RX12, 4 RX13, 5 VSS, 8 INT, 9 SYNC, 10 RX14, 11 SCL, 12 SDA, 13 RX0, 14 RX1, 15 RX2, 16 VSS, 17 VDD, 18 RX3, 19 RX4, 20 RX5, 21 RX6, 22 RX7, 23 RX8, 24 ICSPCLK, 25 ICSPDAT, 26 RESET, 27 RX9, 28 RX10, 29 EP

## MTCH6102_BIG
designator *
footprint SS28 (SOP, 28-Leads, Body 10.20x5.30mm, Pitch 0.65mm, IPC Medium Density)
pins: 1 ~{RESET}, 2 RX9, 3 RX10, 4 RX11, 5 RX12, 6 NC, 7 RX13, 8 VSS, 9 NC, 11 INT, 12 SYNC, 13 RX14, 14 SCL, 15 SDA, 16 RX0, 17 RX1, 18 RX2, 19 VSS, 20 VDD, 21 RX3, 22 RX4, 23 RX5, 24 RX6, 25 RX7, 26 RX8

## NCP1402
designator *
DC to DC step up; Digikey: NCP1402SN50T1GOSCT-ND
footprint SOT-23-5
pins: 1 CE, 2 OUT, 3 NC, 4 GND, 5 LX

## nRF24L01+
designator *
2.4 GHz Radio; manufacturer part number: nRF24L01P-R; digikey part number: 1490-1033-1-ND
footprint QFN20 (QFN, 20-Leads, Body 4.00x4.00mm, Pitch 0.50mm, Thermal Pad 2.50x2.50mm, IPC Low Density)
pins: 1 CE, 2 CSN, 3 SCK, 4 MOSI, 5 MISO, 6 IRQ, 7 VDD, 8 VSS, 9 XC2, 10 XC1, 11 VDD_PA, 12 ANT1, 13 ANT2, 14 VSS, 15 VDD, 16 IREF, 17 VSS, 18 VDD, 19 DVDD, 20 VSS, 21 EP

## nRF8001
designator Bluetooth Low Energy IC
digikey number: 1490-1026-ND
footprint QFN32_W_GND
pins: 1 VDD, 2 DEC1, 3 DEC2, 4 XL2, 5 XL1, 6 ACTIVE, 7 TXD, 8 VSS, 9 VDD, 10 RXD, 11 SCK, 12 ~{REQN}, 13 MOSI, 14 MISO, 15 N/C, 16 ~{RDYN}, 17 VSS, 18 VSS, 19 ~{RESET}, 20 VDD_PA, 21 ANT1, 22 ANT2, 23 VSS, 24 AVDD, 25 IREF, 26 AVDD, 27 XC2, 28 XC1, 29 AVDD, 30 VSS, 31 VSS, 32 DCC, 33 PAD

## nRF52832
designator *
Supplier 1: Digikey; Supplier Part Number 1: 1490-1052-1-ND
footprint QFN48 6x6mm 0.4mm pitch (QFN, 48-Leads, Body 6.00x6.00mm, Pitch 0.40mm, Thermal Pad 4.60x4.60mm, IPC Medium Density)
pins: 1 DEC1, 2 P0.00/XL1, 3 P0.01/XL2, 4 P0.02/AIN0, 5 P0.03/AIN1, 6 P0.04/AIN2, 7 P0.05/AIN3, 8 P0.06, 9 P0.07, 10 P0.08, 11 P0.09/NFC1, 12 P0.10/NFC2, 13 VDD, 14 P0.11, 15 P0.12, 16 P0.13, 17 P0.14, 18 P0.15, 19 P0.16, 20 P0.17, 21 P0.18, 22 P0.19, 23 P0.20, 24 P0.21/RESET, 25 SWDCLK, 26 SWDIO, 27 P0.22, 28 P0.23, 29 P0.24, 30 ANT, 31 VSS, 32 DEC2, 33 DEC3, 34 XC1(32MHz), 35 XC2(32MHz), 36 VDD, 37 P0.25, 38 P0.26, 39 P0.27, 40 P0.28/AIN4, 41 P0.29/AIN5, 42 P0.30/AIN6, 43 P0.31/AIN7, 44 NC, 45 VSS, 46 DEC4, 47 DCC, 48 VDD, 49 VSS (PAD)

## ON_OFF_SWITCH
designator *
SPDT SMD Side Switch; Sparkfun#: COM-00597; digikey number: 563-1102-1-ND
footprint SWTICH_SMD_SIDE
footprint SS321 Switch (SPDT Slide Switch)
pins: 1, 2, 3

## Polarized Cap
designator *
footprint CAP1206
footprint CAP0805
pins: 1, 2

## Potentiometer
designator *
Supplier 1: Digikey; Supplier Part Number 1: 987-1003-6-ND
footprint 22AR100KLFTR (100K trimmer)
pins: 1, 2, 3

## Potentiometer large
designator *  Supplier Part Number 1: PRS11S-N20F-103B1-ND
SMD Large pot for audio; Supplier 1: Digikey
footprint PRS11S (SMD Potentiometer)
pins: 1, 2, 3

## QBLP653B-IR1
designator *  Supplier Part Number 1: 1516-1272-2-ND
Supplier 1: Digi-Key
footprint QBLP653B-IR1 (IR LED fNIR)
pins: 1 A, 2 K

## R102
designator *
UHF RFID Chip
footprint R102 (UHF RFID Chip)
pins: 1 RF+, 2 NC, 3 NC, 4 RF-, 5 VSS (power), 6 VBAT (power), 7 VIO (power), 8 ADMIN (in), 9 MISO/EV0/BP0 (io), 10 MOSI/EV1/BP1 (io), 11 SCK/EV2/BP2 (io), 12 CS/EV3/BP3 (io), 13 EV4/BP4 (io), 14 VDD (power), 15 GLOAD (power), 16 VREGL (power)

## Resistor
designator *
digikey part number: *; manufacturer: *; manufacturer part number: *
footprint RES_1206_SMD
footprint 0603W
footprint 0402W
footprint 0402 RESISTOR
pins: 1, 2

## Resonator SMD
designator *
Build in caps; Digikey part number: 490-1195-1-ND
footprint Resonator SMD
pins: 1, 2, 3

## RJ45 Connector
designator *
digikey part number: WM4595CT-ND
footprint RJ45 (MOLEX CONN MOD JACK 8P8C R/A UNSHLD)
pins: 1, 2, 3, 4, 5, 6, 7, 8

## RN42
designator *
Bluetooth serial modem
footprint RN-42 LAND
pins: 1 GND (power), 2 SPI_MOSI (in), 3 PIO6 (io), 4 PIO7 (io), 5 RESET# (in), 6 SPI_SCK (in), 7 PCM_CLK, 8 PCM_SYNC, 9 PCM_IN, 10 PCM_OUT, 11 VDD (power), 12 GND (power), 13 UART_RX (in), 14 UART_TX (out), 15 UART_RTS (out), 16 UART_CTS (in), 17 USB_D+ (io), 18 USB_D- (io), 19 PIO2 (io), 20 PIO3 (io), 21 PIO5 (io), 22 PIO4 (io), 23 SPI_CS# (in), 24 SPI_MISO (out), 28 GND (power), 29 GND (power), 30 AIO0, 31 PIO8 (io), 32 PIO9 (io), 33 PIO10 (io), 34 PIO11 (io), 35 AIO1

## RT8008
designator U*
1.5MHz, 600mA, High Efficiency PWM Step-Down DC/DC  Converter; digikey part number: RT8008-33GB-ND
footprint SOT25
pins: 1 EN, 2 GND, 3 LX, 4 VIN, 5 VOUT

## S1A-S1M
designator *
General purpose diode 50V 1A SMA; Supplier 1: Digikey; Supplier Part Number 1: ES1AFSCT-ND
footprint JEDEC DO-214 (Diode 2 pin)
pins: 1 C, 2 A

## Sensor tape via
designator *
footprint Sensor tape via (Special via for stitching segments of sensor tape)
pins: 1 na

## servo-breakout
designator *
footprint SERVO_CONN (servo connection for break out wires)
pins: 1

## SFH 4045N
designator *
High Power Infrared Emitter (940 nm); digikey part number: 475-3047-1-ND
footprint SFH 4045N (High Power Infrared Emitter (940 nm))
pins: 1 Cathode, 2 Anode

## SHORT
designator *
footprint SHORT (Just a short)
pins: 0, 1

## SIP32431
designator *
High side switch; Digikey part number: SIP32431DR3-T1GE3CT-ND
footprint SOT363
pins: 1 OUT, 2 GND, 3 ON/OFF, 4 IN, 5 GND, 6 NC

## SMLP36 Diffuse RGB LED
designator *
digikey number: 511-1625-6-ND
footprint SMLP36RGB (DIFFUSE RGB LED)
pins: 1, 2, 3, 4, 5, 6
text: Anode; blue; green; red

## SOLENOID VALVE
designator *
footprint S070C-5CG-32 (5V Solenoid Valve)
pins: 1 +, 2 -

## SPST
designator *
THD Button Switch; Sparkfun #: COM-00097
footprint Button_TRUHOLE
footprint EVQQ2 Switch (Panasonic touch)
pins: 1 COMMON, 2, 3, 4

## SSAJ110100
designator *  Supplier Part Number 1: 688-SSAJ110100
SPST Micro Switch; Supplier 1: Mouser
footprint SSAJ110100 (Slide switch with legs)
pins: 1, 2, 3

## TACTILE SWITCH SPST
designator *
Manufacturer part number: EVP-AA402W; Digi-key part number: P13349SCT-ND
footprint EVPAA
pins: 1 COMMON, 2, 3, 4

## TagConnect ISP AVR programmer connector
designator *
footprint TC2030-IDC_NL (Tag-Connect Programmer)
pins: 1 MISO, 2 Vdd, 3 SCK, 4 MOSI, 5 RESET, 6 GND

## Tantalum Cap
designator *
Manufacturer #: T495V686K010ATE070; digikey: 399-4966-1-ND
footprint 2917 (7343 Metric) Pol Cap
footprint 0805 TANTALUM
pins: 1, 2

## TCS3472
designator *
digikey part number: TCS34725FNCT-ND
footprint TCS3472 (RGB Color Sensor)
pins: 1 Vdd, 2 SCL, 3 GND, 4 NC, 5 INT, 6 SDA

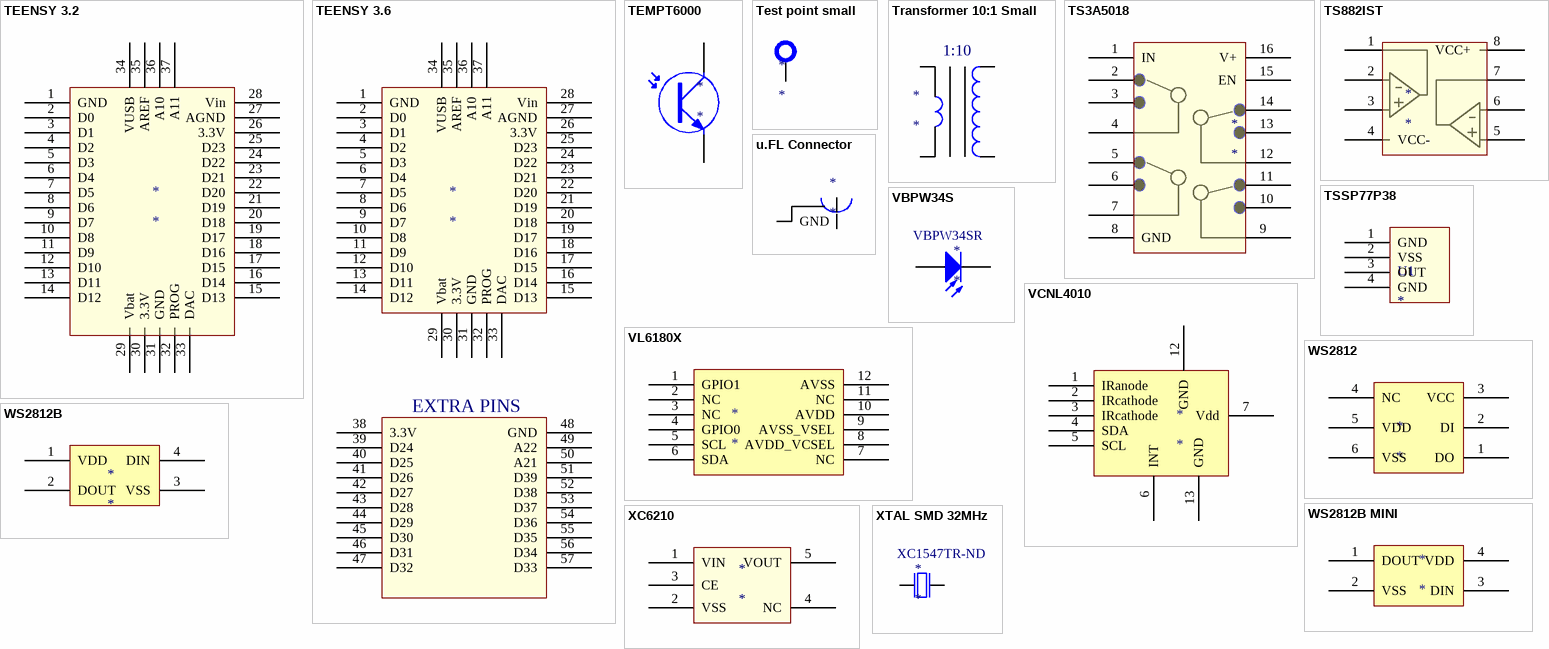
[diagram p4: symbols TEENSY 3.2 to XTAL SMD 32MHz]

## TEENSY 3.2
designator *
footprint TEENSY 3.2
pins: 1 GND, 2 D0, 3 D1, 4 D2, 5 D3, 6 D4, 7 D5, 8 D6, 9 D7, 10 D8, 11 D9, 12 D10, 13 D11, 14 D12, 15 D13, 16 D14, 17 D15, 18 D16, 19 D17, 20 D18, 21 D19, 22 D20, 23 D21, 24 D22, 25 D23, 26 3.3V, 27 AGND, 28 Vin, 29 Vbat, 30 3.3V, 31 GND, 32 PROG, 33 DAC, 34 VUSB, 35 AREF, 36 A10, 37 A11

## TEENSY 3.6
designator *
footprint TEENSY 3.6
pins: 1 GND, 2 D0, 3 D1, 4 D2, 5 D3, 6 D4, 7 D5, 8 D6, 9 D7, 10 D8, 11 D9, 12 D10, 13 D11, 14 D12, 15 D13, 16 D14, 17 D15, 18 D16, 19 D17, 20 D18, 21 D19, 22 D20, 23 D21, 24 D22, 25 D23, 26 3.3V, 27 AGND, 28 Vin, 29 Vbat, 30 3.3V, 31 GND, 32 PROG, 33 DAC, 34 VUSB, 35 AREF, 36 A10, 37 A11, 38 3.3V, 39 D24, 40 D25, 41 D26, 42 D27, 43 D28, 44 D29, 45 D30, 46 D31, 47 D32, 48 GND, 49 A22, 50 A21, 51 D39, 52 D38, 53 D37, 54 D36, 55 D35, 56 D34, 57 D33
text: EXTRA PINS

## TEMPT6000
designator *
Sparkfun: BOB-08688
footprint TEMP6000 (Ambient Light sensor)
pins: 1 C, 2 E

## Test point small
designator *
digikey number: 5000K-ND
footprint Test point small
footprint TEST POINT SUPER SMALL
footprint TEST POINT SMD SMALL
footprint TEST POINT SMD SUPER SMALL
pins: 0

## Transformer 10:1 Small
designator *
footprint TRANSFORMER_SMALL_10_1 (12x12x10mm)
pins: 1, 4, 5, 6
text: 1:10

## TS3A5018
designator *
4 x SDPT Multiplexer; manufacturer part number: TS3A5018DBQR
footprint TSSOP16
pins: 1 IN, 2, 3, 4, 5, 6, 7, 8 GND, 9, 10, 11, 12, 13, 14, 15 EN, 16 V+

## TS882IST
designator *
Rail-to-rail 1.1 V dual comparatpr; digikey part number: 497-13800-1-ND
footprint MiniS08 (TSOP, 8-Leads, Body 3.00x2.95mm, Pitch 0.65mm, IPC Medium Density)
pins: 1 25, 2, 3, 4 VCC-, 5 32, 6, 7, 8 VCC+

## TSSP77P38
designator U1
IR Detector for Mid Range Proximity Sensor; digikey part number: TSSP77P38TCT-ND
footprint TSSP77P38 (IR Detector for Mid Range Proximity Sensor)
pins: 1 GND, 2 VSS, 3 OUT, 4 GND

## u.FL Connector
designator *
Ultra Small Surface Mount Coaxial Connectors; digikey part number: H9161CT-ND
footprint u.FL (Ultra Small Surface Mount Coaxial Connectors)
pins: 1, 2 GND

## VBPW34S
designator *  Supplier Part Number 1: VBPW34SR
Supplier 1: Future Electronics
footprint VBPW34SR (IR receiver reverse mount)
pins: 1 A, 2 K

## VCNL4010
designator *
digikey number: VCNL4010-GS08CT-ND
footprint VCNL4010 (proximity and light sensor)
pins: 1 IRanode, 2 IRcathode, 3 IRcathode, 4 SDA, 5 SCL, 6 INT, 7 Vdd, 12 GND, 13 GND

## VL6180X
designator *
digikey number: *
footprint VL6180X (IR Proximity sensor)
pins: 1 GPIO1, 2 NC, 3 NC, 4 GPIO0, 5 SCL, 6 SDA, 7 NC, 8 AVDD_VCSEL, 9 AVSS_VSEL, 10 AVDD, 11 NC, 12 AVSS

## WS2812
designator *
adafruit: 1379
footprint WS2812 (RGB Led footprint)
pins: 1 DO, 2 DI, 3 VCC, 4 NC, 5 VDD, 6 VSS

## WS2812B
designator *
Adafruit: 1655
footprint WS2812B (Neopixel RGB LED rev B)
footprint WS2812B_SMALL (Neopixel LED Rev Small footorint)
pins: 1 VDD, 2 DOUT, 3 VSS, 4 DIN

## WS2812B MINI
designator *
footprint WS2812B MINI
pins: 1 DOUT, 2 VSS, 3 DIN, 4 VDD

## XC6210
designator *
manufacturer part number: XC6210B332MR-G; manufacturer: Torex; digikey part number: 893-1075-1-ND
footprint SOT-23-5 (3D view)
pins: 1 VIN, 2 VSS, 3 CE, 4 NC, 5 VOUT

## XTAL SMD 32MHz
designator *  Supplier Part Number 1: XC1547TR-ND
Supplier 1: Digikey
footprint 2106_XTAL
pins: 1 inp, 3 out